# EAGLE library part TPD3F303 (library TPD3F303)
FILTER RC(PI) ESD SMD
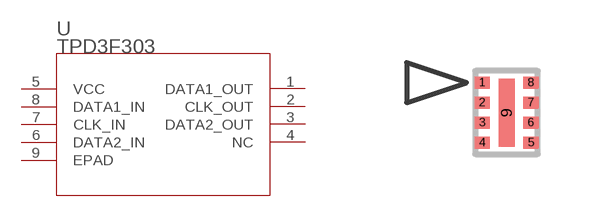
[diagram p0: symbol with the pads of USON; footprint USON]

Designator prefix U

## TPD3F303DPVR (MF: Texas Instruments; MPN: TPD3F303DPVR)  [USON]
1  DATA1_OUT  out
2  CLK_OUT  out
3  DATA2_OUT  out
4  NC  nc
5  VCC  pwr
6  DATA2_IN  in
7  CLK_IN  in
8  DATA1_IN  in
9  EPAD  pas

## Footprint USON (pad centres in mm)
smd 0.38 x 0.3: 1 -0.61,0.75; 2 -0.61,0.25; 3 -0.61,-0.25; 4 -0.61,-0.75; 5 0.61,-0.75; 6 0.61,-0.25; 7 0.61,0.25; 8 0.61,0.75
smd 0.4 x 1.7: 9 0,0